# Altium footprint library ResistorsFootprint.PcbLib: 15 footprints
Each footprint in its own frame and in the unit in brackets; x right, y up, seen from the top. Pads: shape width x height; smd on the part's side, far side on the other; paste and mask are expansions set on the pad; w line width, h text height; cw(c..) or ccw(c..) is an arc to the next point about the centre after c.
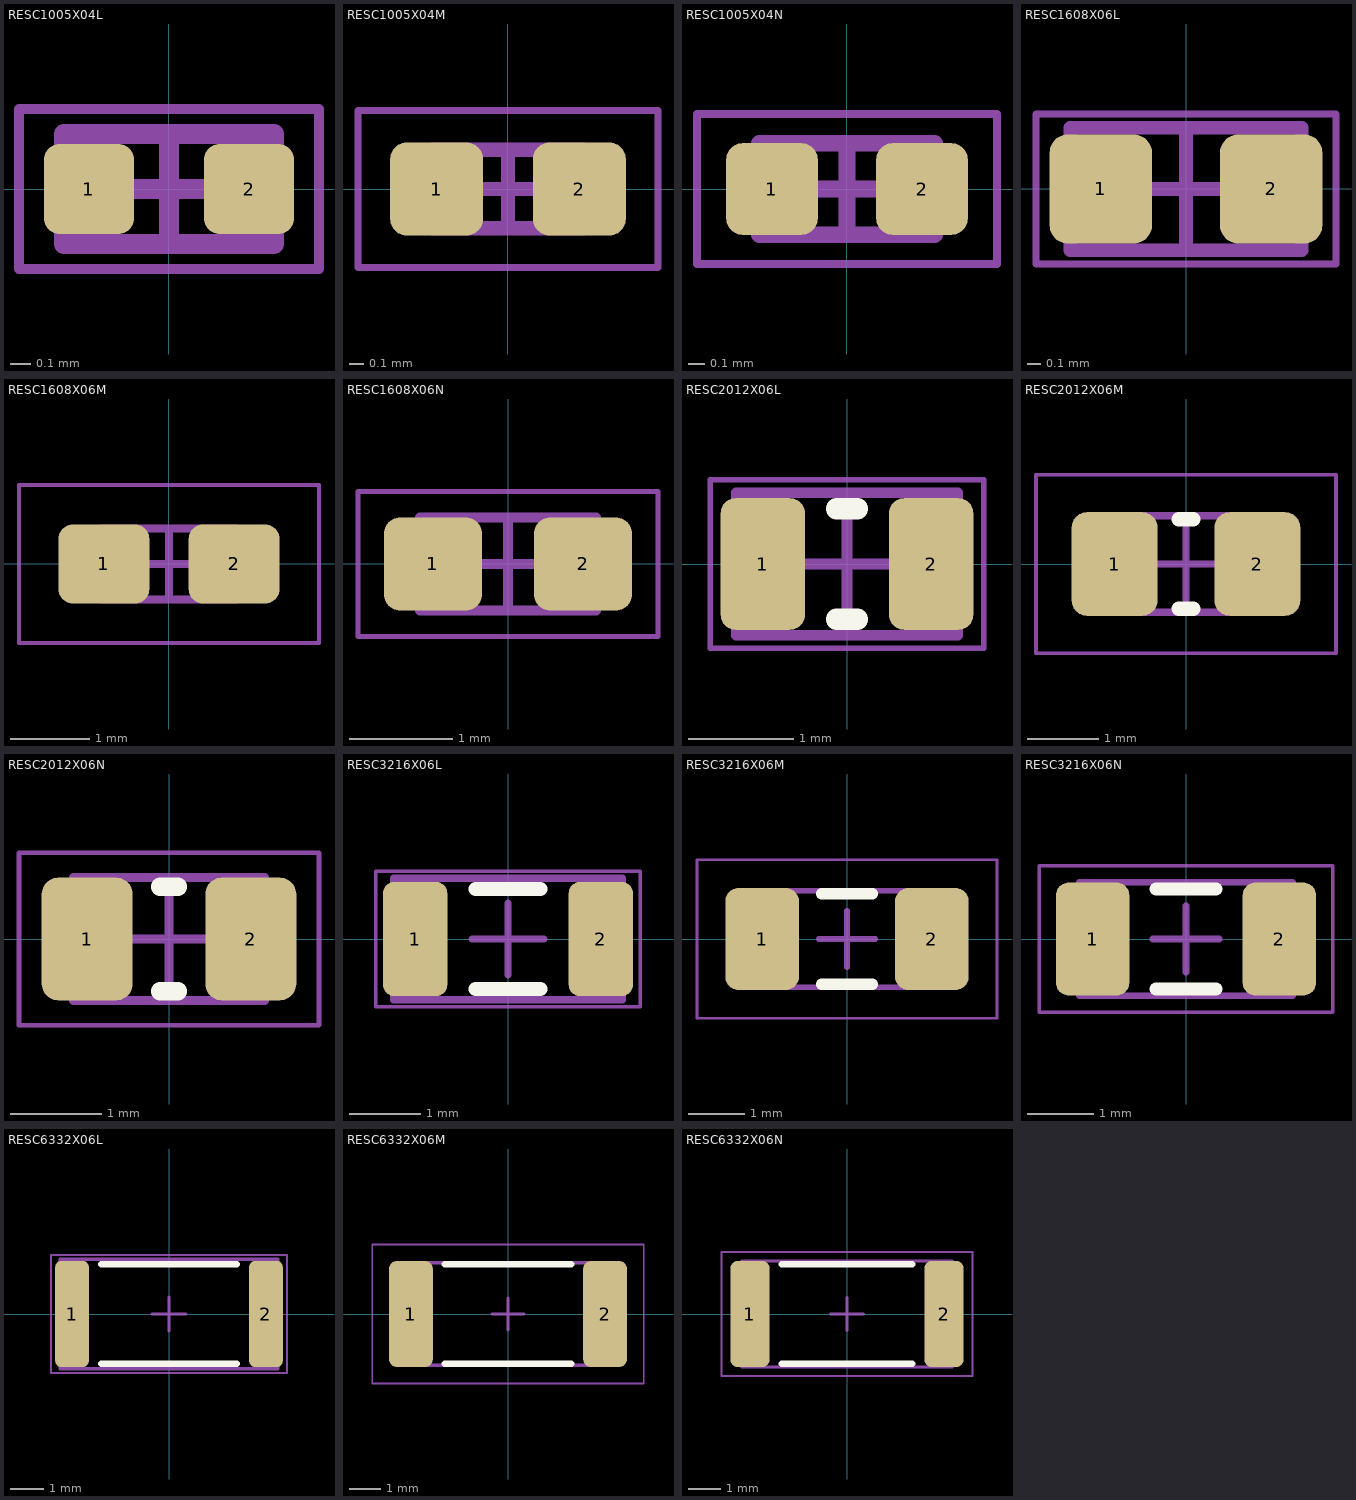
[diagram p0: the footprints below, top view; thin cyan lines are the x and y axes]

## RESC1005X04L [mm] "Chip Resistor 0402, 2-Leads, Body 1,00x0,50mm, IPC High Density"
height 0.4
pads (2):
  rrect35% 0.45x0.45 smd: 1(-0.4,0) 2(0.4,0)
Mechanical 13:
  lines w0.1: -0.525,-0.275 -0.525,0.275 0.525,0.275 0.525,-0.275 -0.525,-0.275
Mechanical 15:
  lines w0.05: -0.75,-0.4 -0.75,0.4 0.75,0.4 0.75,-0.4 -0.75,-0.4
  lines w0.1: -0.275,0 0.275,0 ; 0,-0.275 0,0.275
3D body "RESC1005X04L.step": height 0.4, standoff 0, extent -0.525,-0.275 0.525,0.275

## RESC1005X04M [mm] "Chip Resistor 0402, 2-Leads, Body 1,00x0,50mm, IPC Low Density"
height 0.4
pads (2):
  rrect35% 0.65x0.65 smd: 1(-0.5,0) 2(0.5,0)
Mechanical 13:
  lines w0.1: -0.525,-0.275 -0.525,0.275 0.525,0.275 0.525,-0.275 -0.525,-0.275
Mechanical 15:
  lines w0.05: -1.05,-0.55 -1.05,0.55 1.05,0.55 1.05,-0.55 -1.05,-0.55
  lines w0.1: -0.275,0 0.275,0 ; 0,-0.275 0,0.275
3D body "RESC1005X04M.step": height 0.4, standoff 0, extent -0.525,-0.275 0.525,0.275

## RESC1005X04N [mm] "Chip Resistor 0402, 2-Leads, Body 1,00x0,50mm, IPC Medium Density"
height 0.4
pads (2):
  rrect35% 0.55x0.55 smd: 1(-0.45,0) 2(0.45,0)
Mechanical 13:
  lines w0.1: -0.525,-0.275 0.525,-0.275 0.525,0.275 -0.525,0.275 -0.525,-0.275
Mechanical 15:
  lines w0.05: -0.9,-0.45 0.9,-0.45 0.9,0.45 -0.9,0.45 -0.9,-0.45
  lines w0.1: -0.275,0 0.275,0 ; 0,-0.275 0,0.275
3D body "RESC1005X04N.step": height 0.4, standoff 0, extent -0.525,-0.275 0.525,0.275

## RESC1608X06L [mm] "Chip Resistor 0603, 2-Leads, Body 1,60x0,80mm, IPC High Density"
height 0.55
pads (2):
  rrect35% 0.75x0.8 smd: 1(-0.625,0) 2(0.625,0)
Mechanical 13:
  lines w0.1: -0.85,-0.45 0.85,-0.45 0.85,0.45 -0.85,0.45 -0.85,-0.45
Mechanical 15:
  lines w0.05: -1.1,-0.55 1.1,-0.55 1.1,0.55 -1.1,0.55 -1.1,-0.55
  lines w0.1: -0.45,0 0.45,0 ; 0,-0.45 0,0.45
3D body "RESC1608X06L.step": height 0.55, standoff 0, extent -0.85,-0.45 0.85,0.45

## RESC1608X06M [mm] "Chip Resistor 0603, 2-Leads, Body 1,60x0,80mm, IPC Low Density"
height 0.55
pads (2):
  rrect35% 1.15x1 smd: 1(-0.825,0) 2(0.825,0)
Mechanical 13:
  lines w0.1: -0.85,-0.45 -0.85,0.45 0.85,0.45 0.85,-0.45 -0.85,-0.45
Mechanical 15:
  lines w0.05: -1.9,-1 -1.9,1 1.9,1 1.9,-1 -1.9,-1
  lines w0.1: -0.45,0 0.45,0 ; 0,-0.45 0,0.45
3D body "RESC1608X06M.step": height 0.55, standoff 0, extent -0.85,-0.45 0.85,0.45

## RESC1608X06N [mm] "Chip Resistor 0603, 2-Leads, Body 1,60x0,80mm, IPC Medium Density"
height 0.55
pads (2):
  rrect35% 0.95x0.9 smd: 1(-0.725,0) 2(0.725,0)
Mechanical 13:
  lines w0.1: -0.85,-0.45 0.85,-0.45 0.85,0.45 -0.85,0.45 -0.85,-0.45
Mechanical 15:
  lines w0.05: -1.45,-0.7 1.45,-0.7 1.45,0.7 -1.45,0.7 -1.45,-0.7
  lines w0.1: -0.45,0 0.45,0 ; 0,-0.45 0,0.45
3D body "RESC1608X06N.step": height 0.55, standoff 0, extent -0.85,-0.45 0.85,0.45

## RESC2012X06L [mm] "Chip Resistor 0805, 2-Leads, Body 2,00x1,25mm, IPC High Density"
height 0.6
pads (2):
  rrect35% 0.8x1.25 smd: 1(-0.8,0) 2(0.8,0)
Top Overlay:
  lines w0.2: -0.1,-0.525 0.1,-0.525 ; -0.1,0.525 0.1,0.525
Mechanical 13:
  lines w0.1: -1.05,-0.675 -1.05,0.675 1.05,0.675 1.05,-0.675 -1.05,-0.675
Mechanical 15:
  lines w0.05: -1.3,-0.8 -1.3,0.8 1.3,0.8 1.3,-0.8 -1.3,-0.8
  lines w0.1: -0.5,0 0.5,0 ; 0,-0.5 0,0.5
3D body "RESC2012X06L.step": height 0.6, standoff 0, extent -1.05,-0.675 1.05,0.675

## RESC2012X06M [mm] "Chip Resistor 0805, 2-Leads, Body 2,00x1,25mm, IPC Low Density"
height 0.6
pads (2):
  rrect35% 1.2x1.45 smd: 1(-1,0) 2(1,0)
Top Overlay:
  lines w0.2: -0.1,-0.625 0.1,-0.625 ; -0.1,0.625 0.1,0.625
Mechanical 13:
  lines w0.1: -1.05,-0.675 -1.05,0.675 1.05,0.675 1.05,-0.675 -1.05,-0.675
Mechanical 15:
  lines w0.05: -2.1,-1.25 -2.1,1.25 2.1,1.25 2.1,-1.25 -2.1,-1.25
  lines w0.1: -0.5,0 0.5,0 ; 0,-0.5 0,0.5
3D body "RESC2012X06M.step": height 0.6, standoff 0, extent -1.05,-0.675 1.05,0.675

## RESC2012X06N [mm] "Chip Resistor 0805, 2-Leads, Body 2,00x1,25mm, IPC Medium Density"
height 0.6
pads (2):
  rrect35% 1x1.35 smd: 1(-0.9,0) 2(0.9,0)
Top Overlay:
  lines w0.2: -0.1,-0.575 0.1,-0.575 ; -0.1,0.575 0.1,0.575
Mechanical 13:
  lines w0.1: -1.05,-0.675 -1.05,0.675 1.05,0.675 1.05,-0.675 -1.05,-0.675
Mechanical 15:
  lines w0.05: -1.65,-0.95 -1.65,0.95 1.65,0.95 1.65,-0.95 -1.65,-0.95
  lines w0.1: -0.5,0 0.5,0 ; 0,-0.5 0,0.5
3D body "RESC2012X06N.step": height 0.6, standoff 0, extent -1.05,-0.675 1.05,0.675

## RESC3216X06L [mm] "Chip Resistor 1206, 2-Leads, Body 3,10x1,60mm, IPC High Density"
height 0.6
pads (2):
  rrect35% 0.9x1.6 smd: 1(-1.3,0) 2(1.3,0)
Top Overlay:
  lines w0.2: -0.45,-0.7 0.45,-0.7 ; -0.45,0.7 0.45,0.7
Mechanical 13:
  lines w0.1: -1.6,-0.85 -1.6,0.85 1.6,0.85 1.6,-0.85 -1.6,-0.85
Mechanical 15:
  lines w0.05: -1.85,-0.95 -1.85,0.95 1.85,0.95 1.85,-0.95 -1.85,-0.95
  lines w0.1: -0.5,0 0.5,0 ; 0,-0.5 0,0.5
3D body "RESC3116X06L.step": height 0.6, standoff 0, extent -1.6,-0.85 1.6,0.85

## RESC3216X06M [mm] "Chip Resistor 1206, 2-Leads, Body 3,10x1,60mm, IPC Low Density"
height 0.6
pads (2):
  rrect35% 1.3x1.8 smd: 1(-1.5,0) 2(1.5,0)
Top Overlay:
  lines w0.2: -0.45,-0.8 0.45,-0.8 ; -0.45,0.8 0.45,0.8
Mechanical 13:
  lines w0.1: -1.6,-0.85 -1.6,0.85 1.6,0.85 1.6,-0.85 -1.6,-0.85
Mechanical 15:
  lines w0.05: -2.65,-1.4 -2.65,1.4 2.65,1.4 2.65,-1.4 -2.65,-1.4
  lines w0.1: -0.5,0 0.5,0 ; 0,-0.5 0,0.5
3D body "RESC3116X06M.step": height 0.6, standoff 0, extent -1.6,-0.85 1.6,0.85

## RESC3216X06N [mm] "Chip Resistor 1206, 2-Leads, Body 3,10x1,60mm, IPC Medium Density"
height 0.6
pads (2):
  rrect35% 1.1x1.7 smd: 1(-1.4,0) 2(1.4,0)
Top Overlay:
  lines w0.2: -0.45,-0.75 0.45,-0.75 ; -0.45,0.75 0.45,0.75
Mechanical 13:
  lines w0.1: -1.6,-0.85 1.6,-0.85 1.6,0.85 -1.6,0.85 -1.6,-0.85
Mechanical 15:
  lines w0.05: -2.2,-1.1 2.2,-1.1 2.2,1.1 -2.2,1.1 -2.2,-1.1
  lines w0.1: -0.5,0 0.5,0 ; 0,-0.5 0,0.5
3D body "RESC3116X06N.step": height 0.6, standoff 0, extent -1.6,-0.85 1.6,0.85

## RESC6332X06L [mm] "Chip Resistor 2512, 2-Leads, Body 6,35x3,10mm, IPC High Density"
height 0.65
pads (2):
  rrect35% 1x3.15 smd: 1(-2.875,0) 2(2.875,0)
Top Overlay:
  lines w0.2: -2,-1.475 2,-1.475 ; -2,1.475 2,1.475
Mechanical 13:
  lines w0.1: -3.225,-1.625 -3.225,1.625 3.225,1.625 3.225,-1.625 -3.225,-1.625
Mechanical 15:
  lines w0.05: -3.5,-1.75 -3.5,1.75 3.5,1.75 3.5,-1.75 -3.5,-1.75
  lines w0.1: -0.5,0 0.5,0 ; 0,-0.5 0,0.5
3D body "RESC6431X06L.step": height 0.65, standoff 0, extent -3.225,-1.625 3.225,1.625

## RESC6332X06M [mm] "Chip Resistor 2512, 2-Leads, Body 6,35x3,10mm, IPC Low Density"
height 0.65
pads (2):
  rrect35% 1.4x3.35 smd: 1(-3.075,0) 2(3.075,0)
Top Overlay:
  lines w0.2: -2,-1.575 2,-1.575 ; -2,1.575 2,1.575
Mechanical 13:
  lines w0.1: -3.225,-1.625 -3.225,1.625 3.225,1.625 3.225,-1.625 -3.225,-1.625
Mechanical 15:
  lines w0.05: -4.3,-2.2 -4.3,2.2 4.3,2.2 4.3,-2.2 -4.3,-2.2
  lines w0.1: -0.5,0 0.5,0 ; 0,-0.5 0,0.5
3D body "RESC6431X06M.step": height 0.65, standoff 0, extent -3.225,-1.625 3.225,1.625

## RESC6332X06N [mm] "Chip Resistor 2512 , 2-Leads, Body 6,35x3,10mm, IPC Medium Density"
height 0.65
pads (2):
  rrect35% 1.2x3.25 smd: 1(-2.975,0) 2(2.975,0)
Top Overlay:
  lines w0.2: -2,-1.525 2,-1.525 ; -2,1.525 2,1.525
Mechanical 13:
  lines w0.1: -3.225,-1.625 3.225,-1.625 3.225,1.625 -3.225,1.625 -3.225,-1.625
Mechanical 15:
  lines w0.05: -3.85,-1.9 3.85,-1.9 3.85,1.9 -3.85,1.9 -3.85,-1.9
  lines w0.1: -0.5,0 0.5,0 ; 0,-0.5 0,0.5
3D body "RESC6431X06N.step": height 0.65, standoff 0, extent -3.225,-1.625 3.225,1.625